# Altium schematic symbol library power_supplies_power_switch.SchLib: 3 symbols
Pins are listed as number, name and electrical type; pins without a type are passive.

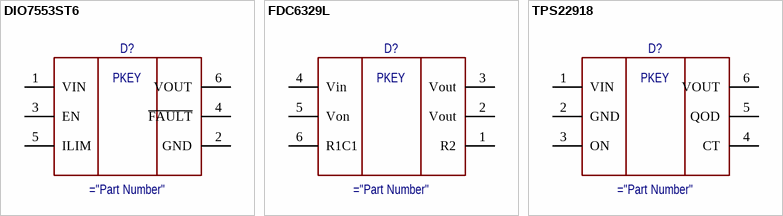
[diagram p0: symbols DIO7553ST6 to TPS22918]

## DIO7553ST6
designator D?
Load Switch
pins: 1 VIN, 2 GND, 3 EN, 4 ~{FAULT}, 5 ILIM, 6 VOUT
text: PKEY

## FDC6329L
designator D?
Load Switch
pins: 1 R2, 2 Vout, 3 Vout, 4 Vin, 5 Von, 6 R1C1
text: PKEY

## TPS22918
designator D?
Load Switch
pins: 1 VIN, 2 GND, 3 ON, 4 CT, 5 QOD, 6 VOUT
text: PKEY